# Altium footprint library EIA.DO,SOD.PcbLib: 10 footprints
Each footprint in its own frame and in the unit in brackets; x right, y up, seen from the top. Pads: shape width x height; smd on the part's side, far side on the other; paste and mask are expansions set on the pad; w line width, h text height; cw(c..) or ccw(c..) is an arc to the next point about the centre after c.
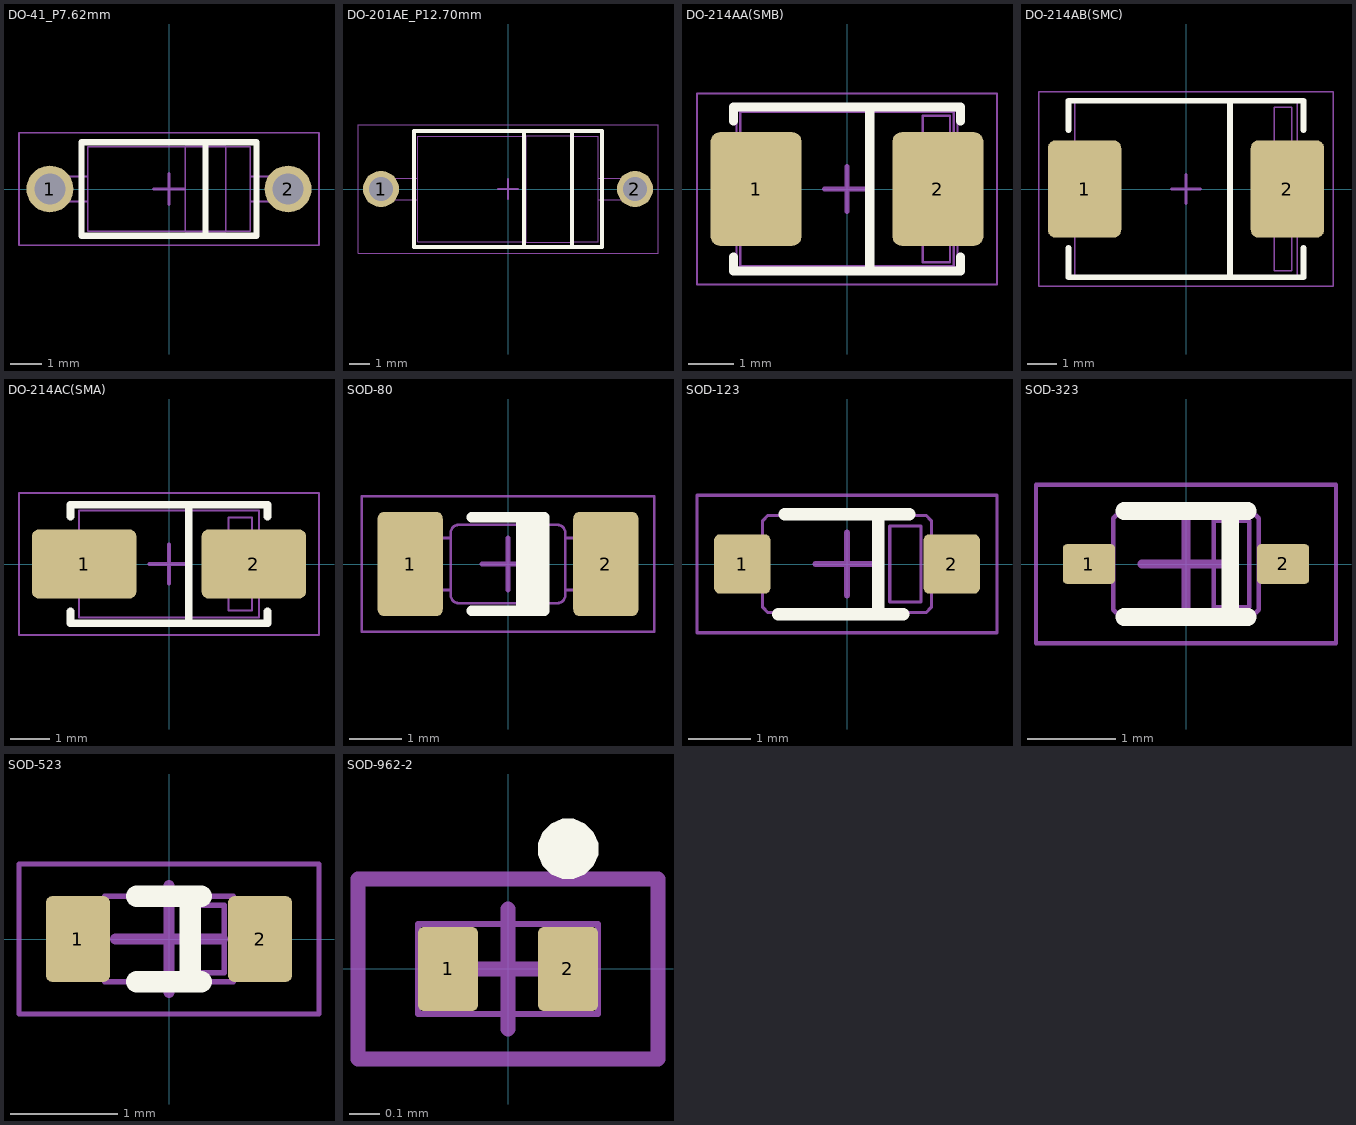
[diagram p0: the footprints below, top view; thin cyan lines are the x and y axes]

## DO-41_P7.62mm [mm] "DO-41 Package, 5.10x2.70mm, 7.62mm Pitch, 2-Lead"
height 3.2
pads (2):
  round 1.5 hole 1: 1(-3.81,0) 2(3.81,0)
Top Overlay:
  lines w0.2: 1.17,-1.5 1.17,1.5 ; -2.8,-1.5 2.8,-1.5 2.8,1.5 -2.8,1.5 -2.8,-1.5
Mechanical 1:
  lines w0.05: -2.6,-0.4 -3.81,-0.4 cw(c-3.81,0) -3.81,0.4 -2.6,0.4 ; 0.52,-1.35 -2.6,-1.35 -2.6,1.35 0.52,1.35 ; 1.82,-1.35 2.6,-1.35 2.6,1.35 1.82,1.35 ; 2.6,-0.4 3.81,-0.4 ccw(c3.81,0) 3.81,0.4 2.6,0.4 ; 0.52,-1.36 0.52,1.36 1.82,1.36 1.82,-1.36 0.52,-1.36
Mechanical 15:
  lines w0.05: -4.8,-1.8 4.8,-1.8 4.8,1.8 -4.8,1.8 -4.8,-1.8
  lines w0.1: -0.5,0 0.5,0 ; 0,-0.5 0,0.5
3D body "D_DO-41_SOD81_P7.62mm_Horizontal.step": height 3.21, standoff -2.5, extent -4.21,-1.35 4.21,1.35

## DO-201AE_P12.70mm [mm] "DO-201 Package, 9.00x5.30mm, 7.62mm Pitch, 2-Lead"
height 5.8
pads (2):
  round 1.8 hole 1.2: 1(-6.35,0) 2(6.35,0)
Top Overlay:
  lines w0.2: 0.8,-2.9 0.8,2.9 ; 3.2,-2.9 3.2,2.9 ; -4.7,-2.9 -4.7,2.9 4.7,2.9 4.7,-2.9 -4.7,-2.9
Mechanical 1:
  lines w0.05: -4.5,-0.55 -6.35,-0.55 cw(c-6.35,0) -6.35,0.55 -4.5,0.55 ; 0.9,-2.65 -4.5,-2.65 -4.5,2.65 0.9,2.65 ; 3.15,-2.65 4.5,-2.65 4.5,2.65 3.15,2.65 ; 4.5,-0.55 6.35,-0.55 ccw(c6.35,0) 6.35,0.55 4.5,0.55 ; 0.9,-2.66 0.9,2.66 3.15,2.66 3.15,-2.66 0.9,-2.66
Mechanical 15:
  lines w0.05: -7.5,-3.2 -7.5,3.2 7.5,3.2 7.5,-3.2 -7.5,-3.2
  lines w0.1: -0.5,0 0.5,0 ; 0,-0.5 0,0.5
3D body "D_DO-201AE_P12.70mm_Horizontal.step": height 5.81, standoff -2.5, extent -6.9,-2.657 6.9,2.657

## DO-214AA(SMB) [mm] "DO-214AA Package, 4.40x3.55mm, 2-Lead"
pads (2):
  rrect20% 2x2.5 smd: 1(-2,0) 2(2,0)
Top Overlay:
  lines w0.2: -2.5,-1.5 -2.5,-1.8 2.5,-1.8 2.5,-1.5 ; -2.5,1.5 -2.5,1.8 2.5,1.8 2.5,1.5 ; 0.5,-1.8 0.5,1.8
Mechanical 1:
  lines w0.05: -2.503,-1 -2.503,1 ; -2.43,-1 -2.65,-1 -2.65,1 -2.43,1 ; 2.43,-1 2.65,-1 2.65,1 2.43,1 ; 2.503,-1 2.503,1 ; -2.43,-1.775 -2.347,-1.692 ; -2.43,-1.775 -2.43,1.775 ; -2.43,-1.775 2.43,-1.775 ; -2.43,1.775 -2.347,1.692 ; -2.43,1.775 2.43,1.775 ; -2.347,-1.692 2.347,-1.692 ; -2.347,-1.692 -2.347,1.692 ; -2.347,1.692 2.347,1.692 ; 2.347,-1.692 2.347,1.692 ; 2.347,-1.692 2.43,-1.775 ; 2.347,1.692 2.43,1.775 ; 2.43,-1.775 2.43,1.775 ; 1.664,-1.609 2.264,-1.609 2.264,1.609 1.664,1.609 1.664,-1.609
Mechanical 15:
  lines w0.05: -3.3,-2.1 -3.3,2.1 3.3,2.1 3.3,-2.1 -3.3,-2.1
  lines w0.1: -0.5,0 0.5,0 ; 0,-0.5 0,0.5
3D body "D_SMB.step": height 2.15, standoff 0, extent -2.65,-1.775 2.65,1.775

## DO-214AB(SMC) [mm] "DO-214AB Package, 7.56x5.70mm, 2-Lead"
pads (2):
  rrect20% 2.5x3.3 smd: 1(-3.45,0) 2(3.45,0)
Top Overlay:
  lines w0.2: -4,-2 -4,-3 4,-3 4,-2 ; -4,2 -4,3 4,3 4,2 ; 1.5,-3 1.5,3
Mechanical 1:
  lines w0.05: -3.78,-1.5 -4,-1.5 -4,1.5 -3.78,1.5 ; 3.78,-1.5 4,-1.5 4,1.5 3.78,1.5 ; -3.78,-2.95 -3.78,2.95 3.78,2.95 3.78,-2.95 -3.78,-2.95 ; 3.001,-2.771 3.001,2.771 3.601,2.771 3.601,-2.771 3.001,-2.771
Mechanical 15:
  lines w0.05: -5,-3.3 5,-3.3 5,3.3 -5,3.3 -5,-3.3
  lines w0.1: -0.5,0 0.5,0 ; 0,-0.5 0,0.5
3D body "D_SMC.step": height 2.31, standoff 0, extent -4,-2.95 4,2.95

## DO-214AC(SMA) [mm] "DO-214AC Package, 5.20x2.70mm, 2-Lead"
pads (2):
  rrect20% 2.65x1.75 smd: 1(-2.15,0) 2(2.15,0)
Top Overlay:
  lines w0.2: -2.5,-1.2 -2.5,-1.5 2.5,-1.5 2.5,-1.2 ; -2.5,1.2 -2.5,1.5 2.5,1.5 2.5,1.2 ; 0.5,-1.5 0.5,1.5
Mechanical 1:
  lines w0.05: -2.28,-0.75 -2.5,-0.75 -2.5,0.75 -2.28,0.75 ; 2.28,-0.75 2.5,-0.75 2.5,0.75 2.28,0.75 ; -2.28,-1.35 2.28,-1.35 2.28,1.35 -2.28,1.35 -2.28,-1.35 ; 1.508,-1.178 2.108,-1.178 2.108,1.178 1.508,1.178 1.508,-1.178
Mechanical 15:
  lines w0.05: -3.8,-1.8 -3.8,1.8 3.8,1.8 3.8,-1.8 -3.8,-1.8
  lines w0.1: -0.5,0 0.5,0 ; 0,-0.5 0,0.5
3D body "D_SMA.step": height 2.22, standoff 0, extent -2.5,-1.35 2.5,1.35

## SOD-80 [mm] "MELF Diode, 2-Leads, Body 3.50x1.50mm, IPC Medium Density"
height 1.6
pads (2):
  rrect20% 1.25x2 smd: 1(-1.875,0) 2(1.875,0)
Top Overlay:
  rectangle: 0.15,-0.9 0.7,0.9
  lines w0.2: -0.7,-0.9 0.7,-0.9 0.7,0.9 -0.7,0.9
Mechanical 1:
  lines w0.05: -1.3,-0.498 -1.098,-0.498 ; -1.3,0.498 -1.098,0.498 ; 1.098,-0.498 1.3,-0.498 ; 1.098,0.498 1.3,0.498 ; 0.554,-0.751 0.554,0.751 ; 0.554,-0.75 -0.948,-0.75 cw(c-0.948,-0.6) -1.098,-0.6 -1.098,0.6 cw(c-0.948,0.6) -0.948,0.75 0.554,0.75 ; 0.554,-0.751 0.749,-0.751 ; 0.554,0.751 0.749,0.751 ; 0.749,-0.751 0.749,0.751 ; 0.749,-0.75 0.948,-0.75 ccw(c0.948,-0.6) 1.098,-0.6 1.098,0.6 ccw(c0.948,0.6) 0.948,0.75 0.749,0.75 ; -1.7,-0.55 ccw(c-1.5,-0.55) -1.3,-0.55 -1.3,0.55 ccw(c-1.5,0.55) -1.7,0.55 -1.7,-0.55 ; 1.3,-0.55 ccw(c1.5,-0.55) 1.7,-0.55 1.7,0.55 ccw(c1.5,0.55) 1.3,0.55 1.3,-0.55
Mechanical 15:
  lines w0.05: -2.8,-1.3 -2.8,1.3 2.8,1.3 2.8,-1.3 -2.8,-1.3
  lines w0.1: -0.5,0 0.5,0 ; 0,-0.5 0,0.5
3D body "SOD-80 MiniMELF.step": height 1.5, standoff 0, extent -1.7,-0.751 1.7,0.751

## SOD-123 [mm] "SOD123 Package, 2.65x1.55mm. 2-Leads"
pads (2):
  rrect20% 0.9x0.95 smd: 1(-1.675,0) 2(1.675,0)
Top Overlay:
  lines w0.2: -1.1,-0.8 0.9,-0.8 ; -1,0.8 1,0.8 ; 0.5,-0.8 0.5,0.8
Mechanical 1:
  lines w0.05: -1.35,-0.325 -1.9,-0.325 -1.9,0.325 -1.35,0.325 ; 1.35,-0.325 1.9,-0.325 1.9,0.325 1.35,0.325 ; -1.35,-0.693 -1.35,0.693 -1.268,0.775 1.268,0.775 1.35,0.693 1.35,-0.693 1.268,-0.775 -1.268,-0.775 -1.35,-0.693 ; 0.683,-0.608 0.683,0.608 1.183,0.608 1.183,-0.608 0.683,-0.608
Mechanical 15:
  lines w0.05: -2.4,-1.1 2.4,-1.1 2.4,1.1 -2.4,1.1 -2.4,-1.1
  lines w0.1: -0.5,0 0.5,0 ; 0,-0.5 0,0.5
3D body "D_SOD-123.step": height 1.25, standoff 0, extent -1.9,-0.8 1.9,0.8

## SOD-323 [mm] "SOD323 Package, 1.70x1.30mm, 2-Lead"
pads (2):
  rrect20% 0.59x0.45 smd: 1(-1.1,0) 2(1.1,0)
Top Overlay:
  lines w0.2: -0.7,-0.6 0.7,-0.6 ; -0.7,0.6 0.7,0.6 ; 0.5,-0.6 0.5,0.6
Mechanical 1:
  lines w0.05: -0.825,-0.175 -1.25,-0.175 -1.25,0.175 -0.825,0.175 ; 0.825,-0.175 1.25,-0.175 1.25,0.175 0.825,0.175 ; -0.825,-0.517 -0.743,-0.6 0.743,-0.6 0.825,-0.517 0.825,0.517 0.743,0.6 -0.743,0.6 -0.825,0.517 -0.825,-0.517 ; 0.315,-0.49 0.715,-0.49 0.715,0.49 0.315,0.49 0.315,-0.49
Mechanical 15:
  lines w0.05: -1.7,-0.9 1.7,-0.9 1.7,0.9 -1.7,0.9 -1.7,-0.9
  lines w0.1: -0.5,0 0.5,0 ; 0,-0.5 0,0.5
3D body "D_SOD-323.step": height 1.1, standoff 0, extent -1.25,-0.625 1.25,0.625

## SOD-523 [mm] "SOD523 Package, 1.20x0.8mm, 2-Lead"
pads (2):
  rrect20% 0.6x0.8 smd: 1(-0.85,0) 2(0.85,0)
Top Overlay:
  lines w0.2: -0.3,-0.4 0.3,-0.4 ; -0.3,0.4 0.3,0.4 ; 0.2,-0.4 0.2,0.4
Mechanical 1:
  lines w0.05: -0.6,-0.15 -0.8,-0.15 -0.8,0.15 -0.6,0.15 ; 0.6,-0.15 0.8,-0.15 0.8,0.15 0.6,0.15 ; -0.6,-0.4 0.6,-0.4 0.6,0.4 -0.6,0.4 -0.6,-0.4 ; 0.266,-0.316 0.266,0.316 0.516,0.316 0.516,-0.316 0.266,-0.316
Mechanical 15:
  lines w0.05: -1.4,-0.7 -1.4,0.7 1.4,0.7 1.4,-0.7 -1.4,-0.7
  lines w0.1: -0.5,0 0.5,0 ; 0,-0.5 0,0.5
3D body "D_SOD-523.step": height 0.63, standoff 0, extent -0.8,-0.4 0.8,0.4

## SOD-962-2 [mm] "SOD Package, 0.6x0.3mm, 2-Lead"
height 0.3
pads (2):
  rrect20% 0.2x0.28 smd: 1(-0.2,0) 2(0.2,0)
Top Overlay:
  region: 0.2,0.3 0.18,0.3 0.143,0.315 0.115,0.343 0.1,0.38 0.1,0.4 0.1,0.42 0.115,0.457 0.143,0.485 0.18,0.5 0.2,0.5 0.22,0.5 0.257,0.485 0.285,0.457 0.3,0.42 0.3,0.4 0.3,0.38 0.285,0.343 0.257,0.315 0.22,0.3
Mechanical 1:
  lines w0.02: -0.3,-0.15 0.3,-0.15 0.3,0.15 -0.3,0.15 -0.3,-0.15 ; 0.215,-0.125 0.215,0.125 0.275,0.125 0.275,-0.125 0.215,-0.125
Mechanical 15:
  lines w0.05: -0.2,0 0.2,0 ; 0,-0.2 0,0.2 ; -0.5,-0.3 0.5,-0.3 0.5,0.3 -0.5,0.3 -0.5,-0.3
3D body "SOD-962-2.STEP": height 0.3, standoff 0, extent -0.3,-0.15 0.3,0.15